# Altium schematic symbol library CC1206KKX7RDBB102.SchLib: 1 symbol
Pins are listed as number, name and electrical type; pins without a type are passive.

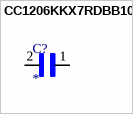
[diagram p0: symbol CC1206KKX7RDBB102]

## CC1206KKX7RDBB102
designator C?
1206 1 nF 2 kV Â±10 % Tolerance X7R SMT Multilayer Ceramic Capacitor; MP: CC1206KKX7RDBB102; Package: None; Price: None; Value: *; Availability: Unavailable
pins: 1, 2